# Altium footprint library acf_foot.PcbLib: 36 footprints (part 2 of 3)
Each footprint in its own frame and in the unit in brackets; x right, y up, seen from the top. Pads: shape width x height; smd on the part's side, far side on the other; paste and mask are expansions set on the pad; w line width, h text height; cw(c..) or ccw(c..) is an arc to the next point about the centre after c.
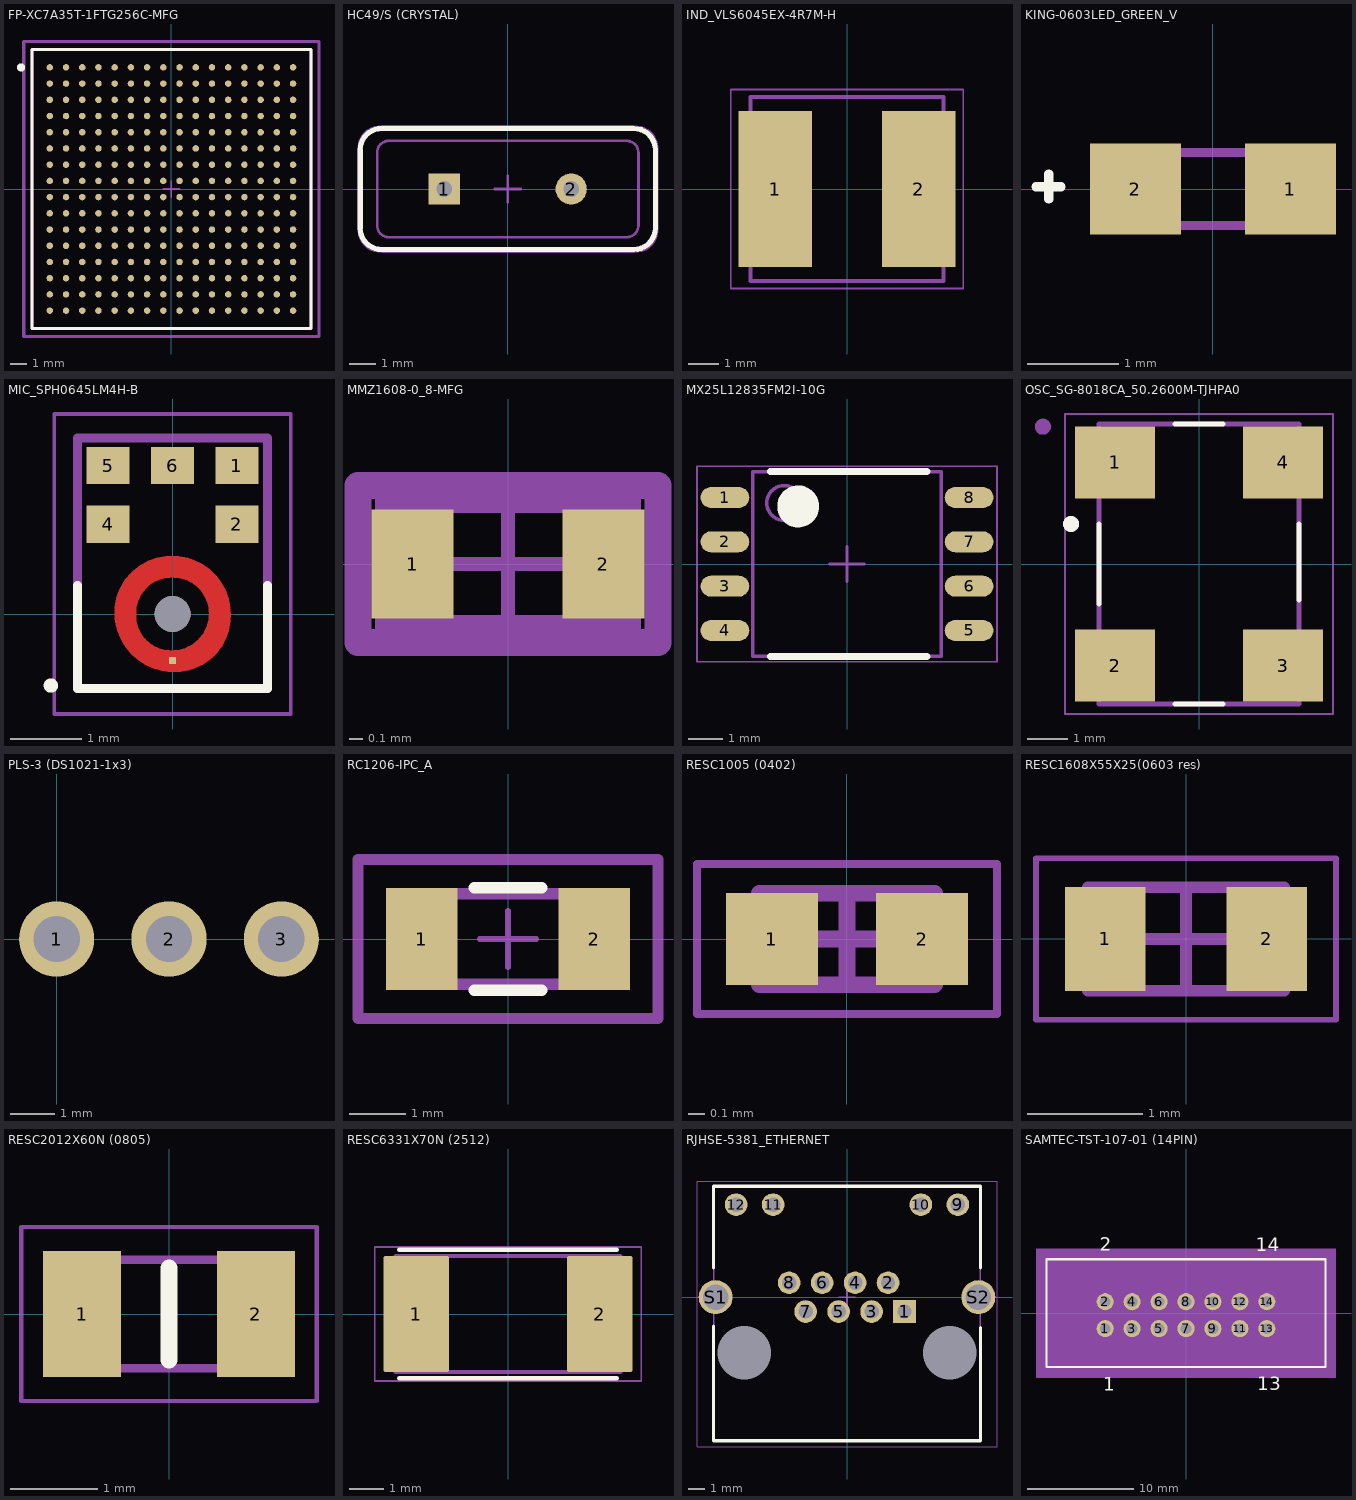
[diagram p1: the footprints below, top view; thin cyan lines are the x and y axes]

## FP-XC7A35T-1FTG256C-MFG [mm]
pads (256):
  round 0.4 smd paste+0 mask+0: A1(-7.5,7.5) A2(-6.5,7.5) A3(-5.5,7.5) A4(-4.5,7.5) A5(-3.5,7.5) A6(-2.5,7.5) A7(-1.5,7.5) A8(-0.5,7.5) A9(0.5,7.5) A10(1.5,7.5) A11(2.5,7.5) A12(3.5,7.5) A13(4.5,7.5) A14(5.5,7.5) A15(6.5,7.5) A16(7.5,7.5) B1(-7.5,6.5) B2(-6.5,6.5) B3(-5.5,6.5) B4(-4.5,6.5) B5(-3.5,6.5) B6(-2.5,6.5) B7(-1.5,6.5) B8(-0.5,6.5) B9(0.5,6.5) B10(1.5,6.5) B11(2.5,6.5) B12(3.5,6.5) B13(4.5,6.5) B14(5.5,6.5) B15(6.5,6.5) B16(7.5,6.5) C1(-7.5,5.5) C2(-6.5,5.5) C3(-5.5,5.5) C4(-4.5,5.5) C5(-3.5,5.5) C6(-2.5,5.5) C7(-1.5,5.5) C8(-0.5,5.5) C9(0.5,5.5) C10(1.5,5.5) C11(2.5,5.5) C12(3.5,5.5) C13(4.5,5.5) C14(5.5,5.5) C15(6.5,5.5) C16(7.5,5.5) D1(-7.5,4.5) D2(-6.5,4.5) D3(-5.5,4.5) D4(-4.5,4.5) D5(-3.5,4.5) D6(-2.5,4.5) D7(-1.5,4.5) D8(-0.5,4.5) D9(0.5,4.5) D10(1.5,4.5) D11(2.5,4.5) D12(3.5,4.5) D13(4.5,4.5) D14(5.5,4.5) D15(6.5,4.5) D16(7.5,4.5) E1(-7.5,3.5) E2(-6.5,3.5) E3(-5.5,3.5) E4(-4.5,3.5) E5(-3.5,3.5) E6(-2.5,3.5) E7(-1.5,3.5) E8(-0.5,3.5) E9(0.5,3.5) E10(1.5,3.5) E11(2.5,3.5) E12(3.5,3.5) E13(4.5,3.5) E14(5.5,3.5) E15(6.5,3.5) E16(7.5,3.5) F1(-7.5,2.5) F2(-6.5,2.5) F3(-5.5,2.5) F4(-4.5,2.5) F5(-3.5,2.5) F6(-2.5,2.5) F7(-1.5,2.5) F8(-0.5,2.5) F9(0.5,2.5) F10(1.5,2.5) F11(2.5,2.5) F12(3.5,2.5) F13(4.5,2.5) F14(5.5,2.5) F15(6.5,2.5) F16(7.5,2.5) G1(-7.5,1.5) G2(-6.5,1.5) G3(-5.5,1.5) G4(-4.5,1.5) G5(-3.5,1.5) G6(-2.5,1.5) G7(-1.5,1.5) G8(-0.5,1.5) G9(0.5,1.5) G10(1.5,1.5) G11(2.5,1.5) G12(3.5,1.5) G13(4.5,1.5) G14(5.5,1.5) G15(6.5,1.5) G16(7.5,1.5) H1(-7.5,0.5) H2(-6.5,0.5) H3(-5.5,0.5) H4(-4.5,0.5) H5(-3.5,0.5) H6(-2.5,0.5) H7(-1.5,0.5) H8(-0.5,0.5) H9(0.5,0.5) H10(1.5,0.5) H11(2.5,0.5) H12(3.5,0.5) H13(4.5,0.5) H14(5.5,0.5) H15(6.5,0.5) H16(7.5,0.5) J1(-7.5,-0.5) J2(-6.5,-0.5) J3(-5.5,-0.5) J4(-4.5,-0.5) J5(-3.5,-0.5) J6(-2.5,-0.5) J7(-1.5,-0.5) J8(-0.5,-0.5) J9(0.5,-0.5) J10(1.5,-0.5) J11(2.5,-0.5) J12(3.5,-0.5) J13(4.5,-0.5) J14(5.5,-0.5) J15(6.5,-0.5) J16(7.5,-0.5) K1(-7.5,-1.5) K2(-6.5,-1.5) K3(-5.5,-1.5) K4(-4.5,-1.5) K5(-3.5,-1.5) K6(-2.5,-1.5) K7(-1.5,-1.5) K8(-0.5,-1.5) K9(0.5,-1.5) K10(1.5,-1.5) K11(2.5,-1.5) K12(3.5,-1.5) K13(4.5,-1.5) K14(5.5,-1.5) K15(6.5,-1.5) K16(7.5,-1.5) L1(-7.5,-2.5) L2(-6.5,-2.5) L3(-5.5,-2.5) L4(-4.5,-2.5) L5(-3.5,-2.5) L6(-2.5,-2.5) L7(-1.5,-2.5) L8(-0.5,-2.5) L9(0.5,-2.5) L10(1.5,-2.5) L11(2.5,-2.5) L12(3.5,-2.5) L13(4.5,-2.5) L14(5.5,-2.5) L15(6.5,-2.5) L16(7.5,-2.5) M1(-7.5,-3.5) M2(-6.5,-3.5) M3(-5.5,-3.5) M4(-4.5,-3.5) M5(-3.5,-3.5) M6(-2.5,-3.5) M7(-1.5,-3.5) M8(-0.5,-3.5) M9(0.5,-3.5) M10(1.5,-3.5) M11(2.5,-3.5) M12(3.5,-3.5) M13(4.5,-3.5) M14(5.5,-3.5) M15(6.5,-3.5) M16(7.5,-3.5) N1(-7.5,-4.5) N2(-6.5,-4.5) N3(-5.5,-4.5) N4(-4.5,-4.5) N5(-3.5,-4.5) N6(-2.5,-4.5) N7(-1.5,-4.5) N8(-0.5,-4.5) N9(0.5,-4.5) N10(1.5,-4.5) N11(2.5,-4.5) N12(3.5,-4.5) N13(4.5,-4.5) N14(5.5,-4.5) N15(6.5,-4.5) N16(7.5,-4.5) P1(-7.5,-5.5) P2(-6.5,-5.5) P3(-5.5,-5.5) P4(-4.5,-5.5) P5(-3.5,-5.5) P6(-2.5,-5.5) P7(-1.5,-5.5) P8(-0.5,-5.5) P9(0.5,-5.5) P10(1.5,-5.5) P11(2.5,-5.5) P12(3.5,-5.5) P13(4.5,-5.5) P14(5.5,-5.5) P15(6.5,-5.5) P16(7.5,-5.5) R1(-7.5,-6.5) R2(-6.5,-6.5) R3(-5.5,-6.5) R4(-4.5,-6.5) R5(-3.5,-6.5) R6(-2.5,-6.5) R7(-1.5,-6.5) R8(-0.5,-6.5) R9(0.5,-6.5) R10(1.5,-6.5) R11(2.5,-6.5) R12(3.5,-6.5) R13(4.5,-6.5) R14(5.5,-6.5) R15(6.5,-6.5) R16(7.5,-6.5) T1(-7.5,-7.5) T2(-6.5,-7.5) T3(-5.5,-7.5) T4(-4.5,-7.5) T5(-3.5,-7.5) T6(-2.5,-7.5) T7(-1.5,-7.5) T8(-0.5,-7.5) T9(0.5,-7.5) T10(1.5,-7.5) T11(2.5,-7.5) T12(3.5,-7.5) T13(4.5,-7.5) T14(5.5,-7.5) T15(6.5,-7.5) T16(7.5,-7.5)
Top Overlay:
  circle w0.25: c-9.275,7.5 r0.125
  lines w0.2: -8.6,-8.6 8.6,-8.6 8.6,8.6 -8.6,8.6 -8.6,-8.6
Top Assembly:
  lines w0.2: -9.1,-9.1 9.1,-9.1 9.1,9.1 -9.1,9.1 -9.1,-9.1
Top 3D Body:
  lines w0.2: -8.6,-8.6 8.6,-8.6 8.6,8.6 -8.6,8.6 -8.6,-8.6
Top Courtyard:
  lines w0.2: -9.1,-9.1 9.1,-9.1 9.1,9.1 -9.1,9.1 -9.1,-9.1
Top Component Center:
  lines w0.1: -0.5,0 0.5,0 ; 0,-0.5 0,0.5
3D body "IC_Xilinx_XC7A35T-1FTG256C_eec.STEP": height 0.25, standoff 0, extent -9.1,-9.1 9.1,9.1

## HC49/S (CRYSTAL) [mm] "THD, 2-Leads, Body 11.35x4.65mm"
height 3.6
pads (2):
  rect 1.2x1.2 hole 0.6: 1(-2.44,0)
  round 1.2 hole 0.6: 2(2.44,0)
Top Overlay:
  lines w0.2: -5.675,-1.5 ccw(c-4.85,-1.5) -4.85,-2.325 4.85,-2.325 ccw(c4.85,-1.5) 5.675,-1.5 5.675,1.5 ccw(c4.85,1.5) 4.85,2.325 -4.85,2.325 ccw(c-4.85,1.5) -5.675,1.5 -5.675,-1.5 ; -5.675,-1.5 -5.675,-1.5
Top 3D Body:
  lines w0.1: -5.675,-1.5 ccw(c-4.85,-1.5) -4.85,-2.325 4.85,-2.325 ccw(c4.85,-1.5) 5.675,-1.5 5.675,1.5 ccw(c4.85,1.5) 4.85,2.325 -4.85,2.325 ccw(c-4.85,1.5) -5.675,1.5 -5.675,-1.5 ; -5.675,-1.5 -5.675,-1.5 ; -5.025,-1.4 ccw(c-4.575,-1.4) -4.575,-1.85 4.575,-1.85 ccw(c4.575,-1.4) 5.025,-1.4 5.025,1.4 ccw(c4.575,1.4) 4.575,1.85 -4.575,1.85 ccw(c-4.575,1.4) -5.025,1.4 -5.025,-1.4
Top Courtyard:
  lines w0.05: -4.85,2.425 4.85,2.425 cw(c4.9,1.55) 5.775,1.6 5.775,-1.599 cw(c4.9,-1.549) 4.869,-2.425 ; -4.831,2.425 ccw(c-4.881,1.55) -5.756,1.6 -5.756,-1.599 ccw(c-4.881,-1.549) -4.85,-2.425 4.85,-2.425
  lines w0.1: -0.5,0 0.5,0 ; 0,-0.5 0,0.5
3D body: height 3.6, standoff 1, extent -5.025,-1.85 5.025,1.85
3D body: height 1, standoff 0, extent -5.675,-2.325 5.675,2.325

## IND_VLS6045EX-4R7M-H [mm]
height 4.5
pads (2):
  rect 2.4x5.1 smd: 1(-2.35,0) 2(2.35,0)
Top 3D Body:
  lines w0.127: -3.15,-3 -3.15,3 3.15,3 3.15,-3 -3.15,-3
Top Courtyard:
  lines w0.05: -3.8,-3.25 -3.8,3.25 3.8,3.25 3.8,-3.25 -3.8,-3.25
3D body "step_temp.STEP": height 4.5, standoff 0, extent -3.15,-3 3.15,3

## KING-0603LED_GREEN_V [mm] "SMT LED, 2-Leads, Body 1.6x0.8mm (0603-Size)"
pads (2):
  rect 1x1 smd paste+0 mask+0.1: 1(0.85,0) 2(-0.85,0)
Top Overlay:
  lines w0.1: -1.94,0.025 -1.665,0.025 ; -1.8,-0.11 -1.8,0.165
Mechanical 7:
  lines w0.1: -0.8,-0.4 0.8,-0.4 0.8,0.4 -0.8,0.4 -0.8,-0.4
3D body: height 0.5, standoff 0, extent 0.664,-0.532 1.089,0.532
3D body: height 0.5, standoff 0, extent -0.925,-0.535 -0.5,0.535
3D body: height 1.1, standoff 0, extent -0.502,-0.533 0.668,0.533
3D body: height 1, standoff 0, extent -0.301,-0.464 0.493,0.402

## MIC_SPH0645LM4H-B [mm]
pads (7):
  rect 0.6x0.522 smd: 1(0.9,2.074) 2(0.9,1.252) 4(-0.9,1.252) 5(-0.9,2.074) 6(0,2.074)
  rect 0.1x0.1 smd paste-1 mask+0: 3(0,-0.65)
  round 0.5 hole 0.5 unplated: ""(0,0)
Top Layer:
  region: 246 vertices and 0 holes, not listed, extent -0.81,-0.81 0.81,0.81
Top Overlay:
  circle w0.1: c-1.7,-1 r0.05
  lines w0.127: -1.325,0.4 -1.325,-1.04 1.325,-1.04 1.325,0.4
Top Paste:
  region: 0.14,0.8 0.23,0.78 0.31,0.75 0.41,0.7 0.5,0.64 0.385,0.525 0.283,0.426 0.225,0.462 0.12,0.5 0,0.514 -0.06,0.51 -0.12,0.5 -0.175,0.485 -0.23,0.46 -0.28,0.435 -0.375,0.53 -0.49,0.645 -0.415,0.7 -0.31,0.75 -0.16,0.796 0,0.81
  region: 0.705,0.405 0.75,0.31 0.78,0.235 0.796,0.16 0.81,0.065 0.81,-0.06 0.8,-0.14 0.78,-0.23 0.75,-0.31 0.705,-0.405 0.64,-0.5 0.52,-0.38 0.421,-0.283 0.462,-0.225 0.5,-0.12 0.514,0 0.5,0.12 0.46,0.23 0.425,0.28 0.53,0.385 0.64,0.5
  region: 0.38,-0.53 0.495,-0.645 0.425,-0.69 0.31,-0.75 0.16,-0.796 0,-0.81 -0.14,-0.8 -0.22,-0.78 -0.31,-0.75 -0.405,-0.705 -0.5,-0.64 -0.385,-0.525 -0.288,-0.426 -0.225,-0.462 -0.12,-0.5 0,-0.514 0.12,-0.5 0.23,-0.46 0.28,-0.425
  region: -0.525,0.39 -0.426,0.293 -0.462,0.225 -0.505,0.125 -0.52,0.005 -0.524,0.005 -0.52,-0.005 -0.505,-0.11 -0.51,-0.12 -0.505,-0.12 -0.465,-0.23 -0.43,-0.285 -0.53,-0.385 -0.64,-0.5 -0.705,-0.4 -0.75,-0.31 -0.796,-0.16 -0.81,0 -0.8,0.14 -0.78,0.22 -0.75,0.31 -0.7,0.41 -0.635,0.505
Top Solder:
  circle w0.912: c0,0 r0.456
Top 3D Body:
  lines w0.127: -1.325,-1.04 -1.325,2.46 1.325,2.46 1.325,-1.04 -1.325,-1.04
Top Courtyard:
  lines w0.05: -1.651,-1.397 -1.651,2.794 1.651,2.794 1.651,-1.397 -1.651,-1.397
3D body "SPH0645LM4H-B--3DModel-STEP-56544.STEP": height 1.08, standoff 0, extent -1.325,-1.04 1.325,2.46

## MMZ1608-0_8-MFG [mm] "Ферритовый фильтр 0603"
pads (2):
  rect 0.6x0.8 smd paste+0 mask+0: 1(-0.7,0) 2(0.7,0)
Top Assembly:
  lines w0.2: -1.1,-0.575 1.1,-0.575 1.1,0.575 -1.1,0.575 -1.1,-0.575
Top 3D Body:
  lines w0.2: -0.875,-0.475 0.875,-0.475 0.875,0.475 -0.875,0.475 -0.875,-0.475
Top Courtyard:
  lines w0.2: -1.1,-0.575 1.1,-0.575 1.1,0.575 -1.1,0.575 -1.1,-0.575
Top Component Center:
  lines w0.1: -0.5,0 0.5,0 ; 0,-0.5 0,0.5
3D body "FBead_TDK_MMZ1608A182BTA00_eec.STEP": height 0.25, standoff 0, extent -1.1,-0.575 1.1,0.575

## MX25L12835FM2I-10G [mm] "SOP, 8-Leads, Body 5.4x5.3mm, Pitch 1.27mm, IPC High Density"
height 2.16
pads (8):
  oval 1.4x0.6 smd: 1(-3.5,1.905) 2(-3.5,0.635) 3(-3.5,-0.635) 4(-3.5,-1.905) 5(3.5,-1.905) 6(3.5,-0.635) 7(3.5,0.635) 8(3.5,1.905)
Top Overlay:
  circle w0.6: c-1.4,1.65 r0.3
  lines w0.2: -2.2,-2.65 2.3,-2.65 ; -2.2,2.65 2.3,2.65
Top 3D Body:
  circle w0.1: c-1.8,1.75 r0.5
  lines w0.1: -2.7,-2.65 2.7,-2.65 2.7,2.65 -2.7,2.65 -2.7,-2.65
Top Courtyard:
  lines w0.05: -4.3,-2.8 4.3,-2.8 4.3,2.8 -4.3,2.8 -4.3,-2.8
  lines w0.1: -0.5,0 0.5,0 ; 0,-0.5 0,0.5
3D body "SOP127P790X216-8L.step": height 2.16, standoff 0, extent -3.95,-2.65 3.95,2.65

## OSC_SG-8018CA_50.2600M-TJHPA0 [mm]
height 1.4
pads (4):
  rect 2x1.8 smd: 1(-2.1,2.54) 2(-2.1,-2.54) 3(2.1,-2.54) 4(2.1,2.54)
Top Overlay:
  circle w0.2: c-3.2,1 r0.1
  lines w0.127: -2.5,-1 -2.5,1 ; -0.6,-3.5 0.6,-3.5 ; -0.6,3.5 0.6,3.5 ; 2.5,-0.9 2.5,1
Top 3D Body:
  circle w0.2: c-3.905,3.432 r0.1
  lines w0.127: -2.5,-3.5 -2.5,3.5 2.5,3.5 2.5,-3.5 -2.5,-3.5
Top Courtyard:
  lines w0.05: -3.35,-3.75 -3.35,3.75 3.35,3.75 3.35,-3.75 -3.35,-3.75

## PLS-3 (DS1021-1x3) [mm] "3-Pin header"
pads (3):
  round 1.7 hole 1.05: 1(0,0) 2(2.54,0) 3(5.08,0)
3D body "826646-3.stp": height 8.8, standoff -3, extent -1.27,-1.25 6.35,1.25

## RC1206-IPC_A [mm]
pads (2):
  rect 1.258x1.812 smd paste+0 mask+0: 1(-1.527,0) 2(1.527,0)
Top Overlay:
  lines w0.2: -0.598,-0.906 0.598,-0.906 ; -0.598,0.906 0.598,0.906
Top Assembly:
  lines w0.2: -2.656,-1.406 2.656,-1.406 2.656,1.406 -2.656,1.406 -2.656,-1.406
Top 3D Body:
  lines w0.2: -1.55,-0.8 1.55,-0.8 1.55,0.8 -1.55,0.8 -1.55,-0.8
Top Courtyard:
  lines w0.2: -2.656,-1.406 2.656,-1.406 2.656,1.406 -2.656,1.406 -2.656,-1.406
Top Component Center:
  lines w0.1: -0.5,0 0.5,0 ; 0,-0.5 0,0.5
3D body "Res_YAGEO_RC1206JR-070RL_eec.STEP": height 0.25, standoff 0, extent -2.656,-1.406 2.656,1.406

## RESC1005 (0402) [mm] "Chip Resistor, 2-Leads, Body 1.05x0.55mm, IPC Medium Density"
height 0.4
pads (2):
  rect 0.55x0.55 smd: 1(-0.45,0) 2(0.45,0)
Top 3D Body:
  lines w0.1: -0.525,-0.275 0.525,-0.275 0.525,0.275 -0.525,0.275 -0.525,-0.275
Top Courtyard:
  lines w0.05: -0.9,-0.45 0.9,-0.45 0.9,0.45 -0.9,0.45 -0.9,-0.45
  lines w0.1: -0.275,0 0.275,0 ; 0,-0.275 0,0.275
3D body "RESC1005X04N.step": height 0.4, standoff 0, extent -0.525,-0.275 0.525,0.275

## RESC1608X55X25(0603 res) [mm] "Chip Resistor, 2-Leads, Body 1.70x0.90mm, IPC Medium Density"
height 0.55
pads (2):
  rect 0.7x0.9 smd: 1(-0.7,0) 2(0.7,0)
Top 3D Body:
  lines w0.1: -0.85,-0.45 -0.85,0.45 0.85,0.45 0.85,-0.45 -0.85,-0.45
Top Courtyard:
  lines w0.05: -1.3,-0.7 -1.3,0.7 1.3,0.7 1.3,-0.7 -1.3,-0.7
  lines w0.1: -0.45,0 0.45,0 ; 0,-0.45 0,0.45
3D body: height 0.55, standoff 0, extent -0.6,-0.45 0.6,0.45
3D body: height 0.55, standoff 0, extent -0.85,-0.45 -0.6,0.45
3D body: height 0.55, standoff 0, extent 0.6,-0.45 0.85,0.45

## RESC2012X60N (0805) [mm]
pads (2):
  rect 0.9x1.45 smd: 1(-1,0) 2(1,0)
Top Overlay:
  lines w0.2: 0,-0.525 0,0.525
Top 3D Body:
  lines w0.1: -1,-0.625 1,-0.625 1,0.625 -1,0.625 -1,-0.625
Top Courtyard:
  lines w0.05: -1.7,-1 1.7,-1 1.7,1 -1.7,1 -1.7,-1
3D body "HR0805F-30GYI.stp": height 0.6, standoff 0, extent -1,-0.625 1,0.625

## RESC6331X70N (2512) [mm]
pads (2):
  rrect7% 1.9x3.37 smd: 1(-2.66,0) 2(2.66,0)
Top Overlay:
  lines w0.127: -3.15,-1.865 3.15,-1.865 ; -3.15,1.865 3.15,1.865
Top 3D Body:
  lines w0.127: -3.25,-1.68 3.25,-1.68 3.25,1.68 -3.25,1.68 -3.25,-1.68
Top Courtyard:
  lines w0.05: -3.86,-1.94 3.86,-1.94 3.86,1.94 -3.86,1.94 -3.86,-1.94
3D body "CSNL2512FT2L00.STEP": height 0.7, standoff 0, extent -3.175,-1.575 3.175,1.575

## RJHSE-5381_ETHERNET [mm] "THD, 12-Leads, Body 16.51x15.75mm"
height 13.84
pads (16):
  rect 1.4x1.4 hole 0.89 mask+0.102: 1(3.56,-0.89)
  round 1.4 hole 0.89 mask+0.102: 2(2.54,0.89) 3(1.52,-0.89) 4(0.5,0.89) 5(-0.52,-0.89) 6(-1.54,0.89) 7(-2.56,-0.89) 8(-3.58,0.89) 9(6.86,5.72) 10(4.57,5.72) 11(-4.57,5.72) 12(-6.86,5.72)
  round 0 hole 3.3 unplated mask+0.102: MH1(-6.35,-3.43) MH2(6.35,-3.43)
  round 2.1 hole 1.57: S1(-8.13,0) S2(8.13,0)
Top Overlay:
  lines w0.2: -8.255,-1.8 -8.255,-8.89 8.255,-8.89 8.255,-1.9 ; -8.255,1.8 -8.255,6.86 8.255,6.86 8.255,1.8
Top 3D Body:
  lines w0.1: -8.255,-8.89 8.255,-8.89 8.255,6.86 -8.255,6.86 -8.255,-8.89
Top Courtyard:
  lines w0.05: -9.28,-9.244 9.28,-9.244 9.28,7.159 -9.28,7.159 -9.28,-9.244
  lines w0.1: -0.5,0 0.5,0 ; 0,-0.5 0,0.5
3D body "M-RJHSE-538X-REVT1.STEP": height 14.89, standoff -3.96, extent -8.415,-9.144 8.415,7.059

## SAMTEC-TST-107-01 (14PIN) [mm]
pads (14):
  round 1.62 hole 1.02 mask+0.051: 1(-7.62,-1.46) 2(-7.62,1.08) 3(-5.08,-1.46) 4(-5.08,1.08) 5(-2.54,-1.46) 6(-2.54,1.08) 7(0,-1.46) 8(0,1.08) 9(2.54,-1.46) 10(2.54,1.08) 11(5.08,-1.46) 12(5.08,1.08) 13(7.62,-1.46) 14(7.62,1.08)
Top Overlay:
  lines w0.2: -13.15,-5.086 13.15,-5.086 13.15,5.086 -13.15,5.086 -13.15,-5.086
  text "1" at -7.8,-7.325 h1.27
  text "2" at -8.125,5.9 h1.27
  text "14" at 6.6,5.825 h1.27
  text "13" at 6.725,-7.25 h1.27
Top 3D Body:
  lines w0.1: -8.255,-4.636 -8.255,-4.382 ; -8.255,-4.636 -8.255,-4.382 ; -8.255,-4.636 -6.985,-4.636 ; -8.255,-4.636 -12.7,-4.636 -12.7,4.636 -11.43,4.636 -11.43,4.254 -6.35,4.254 -3.81,4.254 -1.27,4.254 ; -8.255,-4.382 -6.985,-4.382 ; -8.255,-4.382 -6.985,-4.382 ; -6.985,-4.636 -6.35,-4.636 -3.81,-4.636 -1.27,-4.636 1.27,-4.636 3.81,-4.636 6.35,-4.636 12.7,-4.636 12.7,4.636 11.43,4.636 11.43,4.254 6.35,4.254 3.81,4.254 1.27,4.254 ; -6.985,-4.636 -6.985,-4.382 ; -6.985,-4.636 -6.985,-4.382 ; -1.27,4.254 -1.27,4.636 1.27,4.636 1.27,4.254 ; -1.27,4.254 1.27,4.254 ; 7.302,0.762 7.938,0.762 ; 7.302,0.762 7.302,1.397 7.938,1.397 7.938,0.762 ; 7.302,0.762 7.938,0.762 ; -13.15,-5.086 13.15,-5.086 13.15,5.086 -13.15,5.086 -13.15,-5.086 ; -11.875,-3.81 -6.35,-3.81 -3.81,-3.81 -1.27,-3.81 1.27,-3.81 3.81,-3.81 6.35,-3.81 11.875,-3.81 11.875,3.429 6.35,3.429 3.81,3.429 1.27,3.429 -1.27,3.429 -3.81,3.429 -6.35,3.429 -11.875,3.429 -11.875,-3.81 ; -11.43,-3.366 -11.43,2.984 -6.35,2.984 -3.81,2.984 -1.27,2.984 1.27,2.984 3.81,2.984 6.35,2.984 11.43,2.984 11.43,-3.366 6.35,-3.366 3.81,-3.366 1.27,-3.366 -1.27,-3.366 -3.81,-3.366 -6.35,-3.366 -11.43,-3.366 ; -7.938,-1.778 -7.938,-1.143 -7.302,-1.143 -7.302,-1.778 -7.938,-1.778 ; -7.938,0.762 -7.302,0.762 -7.302,1.397 -7.938,1.397 -7.938,0.762 ; -5.398,-1.778 -4.762,-1.778 -4.762,-1.143 -5.398,-1.143 -5.398,-1.778 ; -5.398,0.762 -4.762,0.762 -4.762,1.397 -5.398,1.397 -5.398,0.762 ; -2.858,-1.778 -2.222,-1.778 -2.222,-1.143 -2.858,-1.143 -2.858,-1.778 ; -2.858,0.762 -2.222,0.762 -2.222,1.397 -2.858,1.397 -2.858,0.762 ; -0.318,-1.778 0.318,-1.778 0.318,-1.143 -0.318,-1.143 -0.318,-1.778 ; -0.318,0.762 0.318,0.762 0.318,1.397 -0.318,1.397 -0.318,0.762 ; 2.222,-1.778 2.858,-1.778 2.858,-1.143 2.222,-1.143 2.222,-1.778 ; 2.222,0.762 2.858,0.762 2.858,1.397 2.222,1.397 2.222,0.762 ; 4.762,-1.778 5.398,-1.778 5.398,-1.143 4.762,-1.143 4.762,-1.778 ; 4.762,0.762 5.398,0.762 5.398,1.397 4.762,1.397 4.762,0.762 ; 7.302,-1.778 7.302,-1.143 7.938,-1.143 7.938,-1.778 7.302,-1.778
Top Courtyard:
  region: 14.147,-6.083 -14.147,-6.083 -14.147,6.083 14.147,6.083
Top Component Center:
  region: 11.021,-4.862 -11.021,-4.862 -11.021,4.48 11.021,4.48
3D body "TST-107-01-G-D.stp": height 9.39, standoff -2.8, extent -12.7,-4.671 12.7,4.6